# Altium footprint library PcbLib1.PcbLib: 7 footprints
Each footprint in its own frame and in the unit in brackets; x right, y up, seen from the top. Pads: shape width x height; smd on the part's side, far side on the other; paste and mask are expansions set on the pad; w line width, h text height; cw(c..) or ccw(c..) is an arc to the next point about the centre after c.
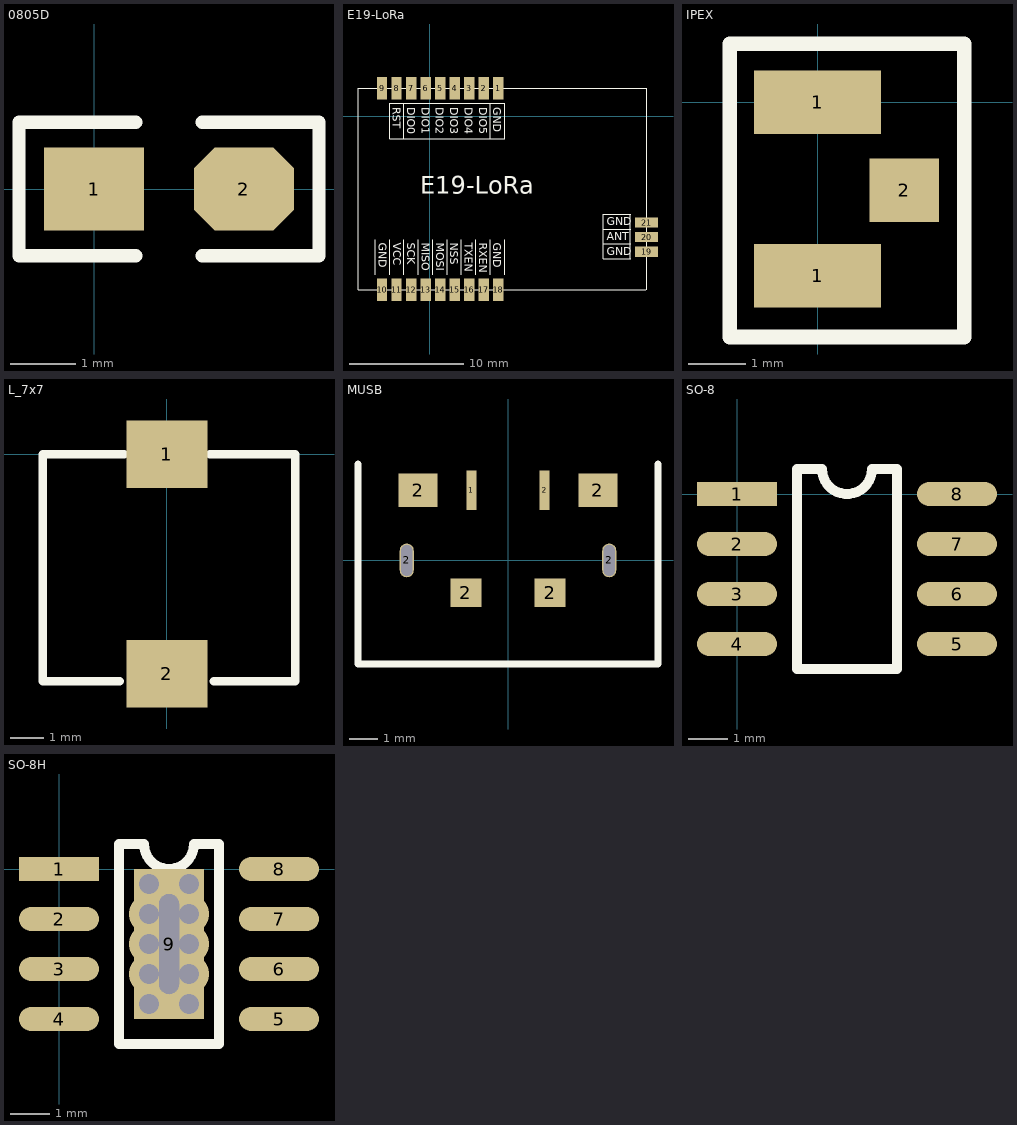
[diagram p0: the footprints below, top view; thin cyan lines are the x and y axes]

## 0805D [mil]
pads (2):
  rect 60x50 smd: 1(0,0)
  oct 60x50 smd: 2(90,0)
Top Overlay:
  lines w8: 25,-40 -45,-40 -45,40 25,40 ; 65,-40 135,-40 135,40 65,40

## E19-LoRa [mm]
pads (23):
  rect 0.9x2 smd: 1(6.006,2.43) 2(4.736,2.43) 3(3.466,2.43) 4(2.196,2.43) 5(0.926,2.43) 6(-0.344,2.43) 7(-1.614,2.43) 8(-2.884,2.43) 9(-4.154,2.43) 10(-4.154,-15.17) 11(-2.884,-15.17) 12(-1.614,-15.17) 13(-0.344,-15.17) 14(0.926,-15.17) 15(2.196,-15.17) 16(3.466,-15.17) 17(4.736,-15.17) 18(6.006,-15.17)
  rect 0x0 smd: 4(-6.254,-15.17)
  rect 0.9x0 on Bottom Overlay: 5(0.926,-15.17)
  rect 2x0.9 smd: 19(18.946,-11.84) 20(18.946,-10.57) 21(18.946,-9.3)
Top Overlay:
  lines w0.1: -6.254,-15.17 -6.254,2.43 18.946,2.43 18.946,-15.17 ; -6.214,-15.15 18.886,-15.15 ; -4.754,-13.84 -4.754,-10.81 ; -3.498,-13.84 -3.498,-10.81 ; -3.498,-1.96 -3.498,1.1 ; -3.484,-1.96 6.546,-1.96 6.546,1.1 -3.454,1.11 ; -2.243,-13.84 -2.243,-10.81 ; -2.243,-1.96 -2.243,1.1 ; -0.987,-13.84 -0.987,-10.81 ; 0.268,-13.84 0.268,-10.81 ; 1.524,-13.84 1.524,-10.81 ; 2.779,-13.84 2.779,-10.81 ; 4.035,-13.84 4.035,-10.81 ; 5.29,-13.84 5.29,-10.81 ; 5.29,-1.96 5.29,1.1 ; 6.546,-13.84 6.546,-10.81 ; 15.146,-12.47 17.546,-12.47 ; 15.146,-12.45 15.146,-8.57 17.546,-8.57 ; 15.146,-11.17 17.546,-11.17 ; 15.146,-9.87 17.546,-9.87 ; 17.536,-12.45 17.536,-8.56
  text "E19-LoRa" at -0.814,-6.79 h1.52
  text "GND" at -4.444,-11.08 h0.7
  text "VCC" at -3.191,-11.08 h0.7
  text "SCK" at -1.939,-11.08 h0.7
  text "MISO" at -0.687,-11.08 h0.7
  text "MOSI" at 0.566,-11.08 h0.7
  text "NSS" at 1.818,-11.08 h0.7
  text "TXEN" at 3.071,-11.08 h0.7
  text "RXEN" at 4.323,-11.08 h0.7
  text "GND" at 5.576,-11.08 h0.7
  text "GND" at 15.466,-12.15 h0.7
  text "ANT" at 15.466,-10.84 h0.7
  text "GND" at 15.466,-9.53 h0.7
  text "RST" at -3.201,0.77 h0.7
  text "DIO0" at -1.949,0.77 h0.7
  text "DIO2" at 0.556,0.77 h0.7
  text "DIO3" at 1.808,0.77 h0.7
  text "DIO4" at 3.061,0.77 h0.7
  text "DIO5" at 4.313,0.77 h0.7
  text "GND" at 5.566,0.77 h0.7
  text "DIO1" at -0.697,0.77 h0.7

## IPEX [mm]
pads (3):
  rect 2.2x1.1 smd: 1(0,-3) 1(0,0)
  rect 1.2x1.1 smd: 2(1.5,-1.524)
Top Overlay:
  lines w0.254: -1.524,-4.064 -1.524,1.016 2.54,1.016 2.54,-4.064 -1.524,-4.064

## L_7x7 [mm]
pads (2):
  rect 2.4x2 smd: 1(0,0) 2(0,-6.5)
Top Overlay:
  lines w0.254: -1.397,-6.731 -3.683,-6.731 -3.683,0 -1.27,0 ; 1.27,0 3.81,0 3.81,-6.731 1.397,-6.731

## MUSB [mm]
pads (8):
  rect 0.35x1.4 smd: 1(-1.3,2.5) 2(1.3,2.5)
  oval 0.5x1.2 hole 0.4 slot 1.1 at 90 deg: 2(-3.6,0) 2(3.6,0)
  rect 1.4x1.2 smd: 2(-3.2,2.5) 2(3.2,2.5)
  rect 1.1x1 smd: 2(-1.5,-1.15) 2(1.5,-1.15)
Top Overlay:
  lines w0.254: -5.334,3.429 -5.334,-3.683 5.334,-3.683 5.334,3.429

## SO-8 [mil]
pads (8):
  rect 80x24 smd: 1(0,0)
  oval 80x24 smd: 2(0,-50) 3(0,-100) 4(0,-150) 5(220,-150) 6(220,-100) 7(220,-50) 8(220,0)
Top Overlay:
  lines w10: 60,-175 60,25 85,25 ccw(c110,25) 135,25 160,25 160,-175 60,-175

## SO-8H [mil]
pads (9):
  rect 80x24 smd: 1(0,0)
  oval 80x24 smd: 2(0,-50) 3(0,-100) 4(0,-150) 5(220,-150) 6(220,-100) 7(220,-50) 8(220,0)
  rect 70x150 hole 20 slot 100 at 90 deg: 9(110,-75)
via 90,-45 diameter 40 hole 20
via 130,-45 diameter 40 hole 20
via 130,-15 diameter 30 hole 20
via 90,-15 diameter 30 hole 20
via 90,-135 diameter 30 hole 20
via 130,-135 diameter 30 hole 20
via 130,-105 diameter 40 hole 20
via 90,-105 diameter 40 hole 20
via 90,-75 diameter 40 hole 20
via 130,-75 diameter 40 hole 20
Top Overlay:
  lines w10: 60,-175 160,-175 160,25 135,25 cw(c110,25) 85,25 60,25 60,-175